# Altium footprint library BLDC-2020.PcbLib: 55 footprints (part 1 of 4)
Each footprint in its own frame and in the unit in brackets; x right, y up, seen from the top. Pads: shape width x height; smd on the part's side, far side on the other; paste and mask are expansions set on the pad; w line width, h text height; cw(c..) or ccw(c..) is an arc to the next point about the centre after c.
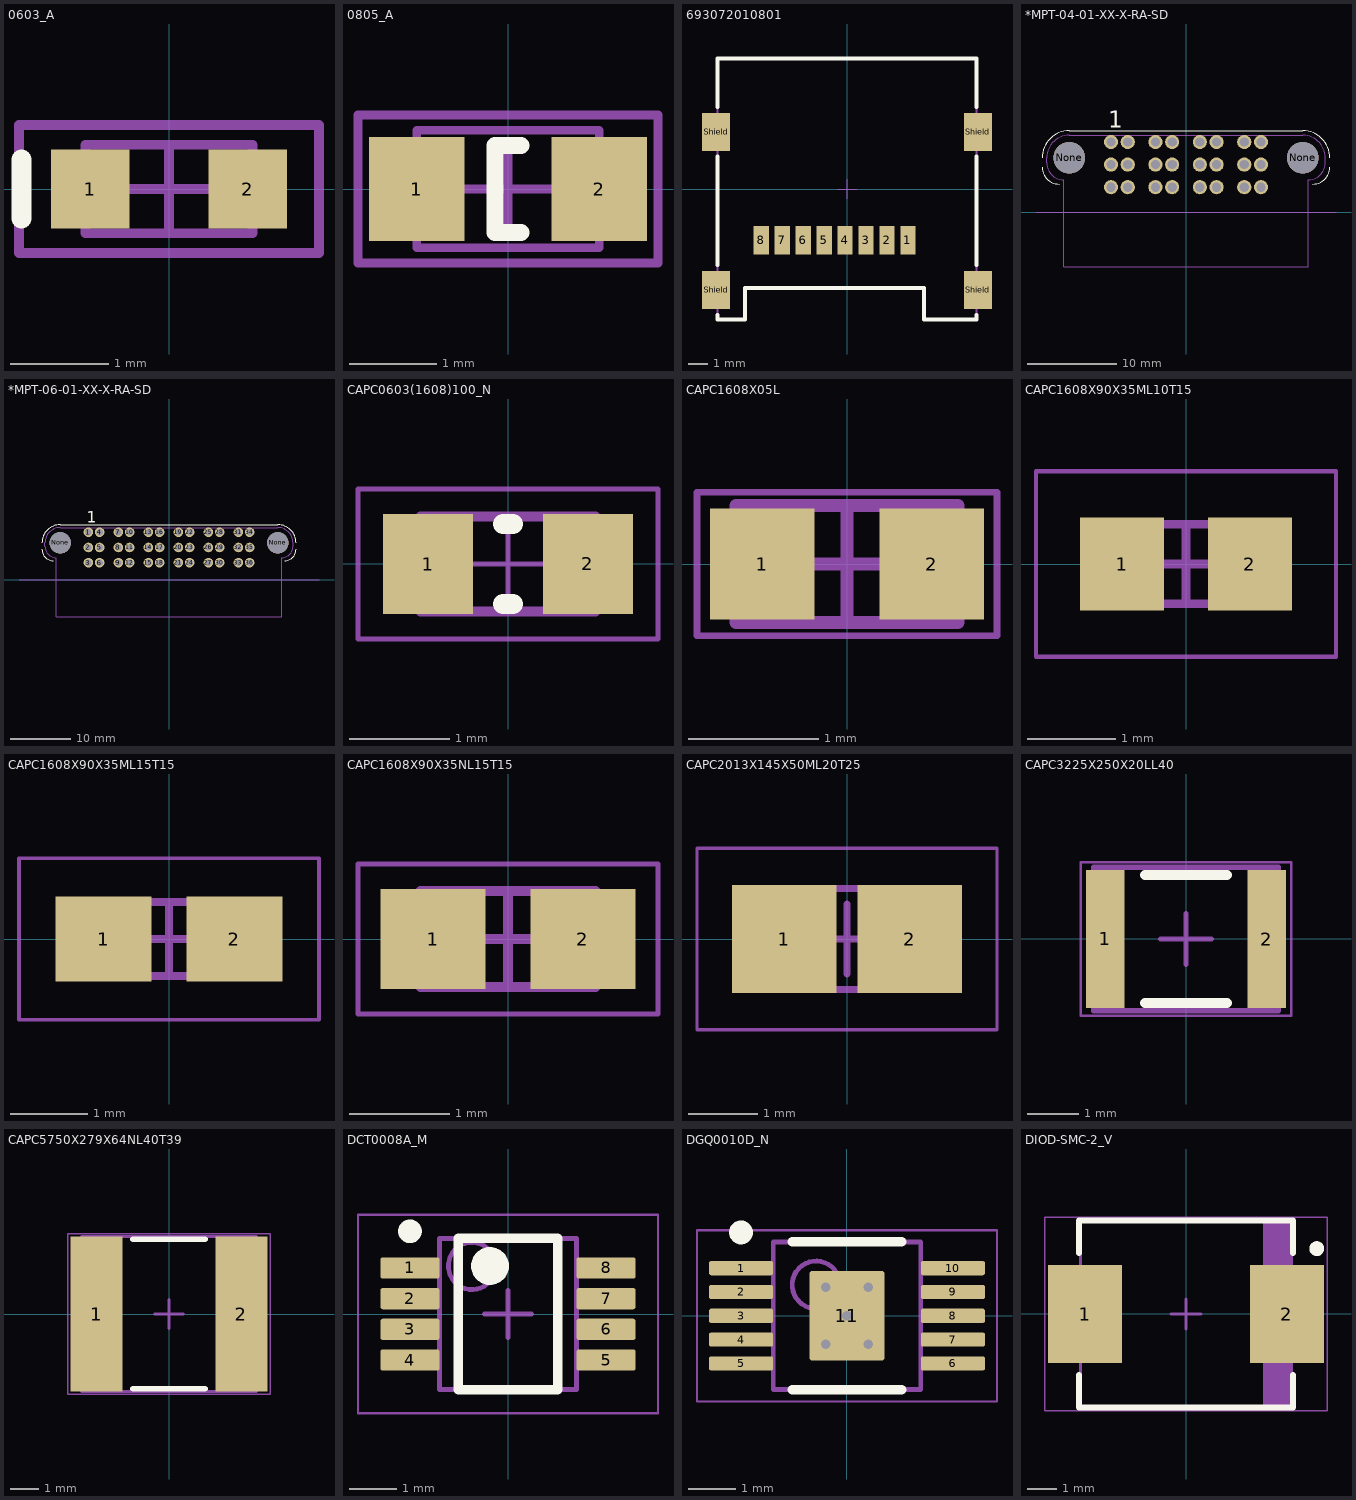
[diagram p0: the footprints below, top view; thin cyan lines are the x and y axes]

## 0603_A [mm]
pads (2):
  rect 0.8x0.8 smd: 1(-0.8,0) 2(0.8,0)
Top Overlay:
  lines w0.2: -1.5,-0.3 -1.5,0.3
Mechanical 13:
  lines w0.1: -0.85,-0.45 0.85,-0.45 0.85,0.45 -0.85,0.45 -0.85,-0.45
Mechanical 15:
  lines w0.1: -0.45,0 0.45,0 ; 0,-0.45 0,0.45 ; -1.525,-0.65 1.525,-0.65 1.525,0.65 -1.525,0.65 -1.525,-0.65
3D body "WL-SMCW_0603_LED.stp": height 0.7, standoff 0, extent -0.8,-0.4 0.8,0.4

## 0805_A [mm]
pads (2):
  rect 1.1x1.2 smd: 1(-1.05,0) 2(1.05,0)
Top Overlay:
  lines w0.2: 0.15,-0.5 -0.15,-0.5 -0.15,0.5 0.15,0.5
Mechanical 13:
  lines w0.1: -1.05,-0.675 -1.05,0.675 1.05,0.675 1.05,-0.675 -1.05,-0.675
Mechanical 15:
  lines w0.1: -0.5,0 0.5,0 ; 0,-0.5 0,0.5 ; -1.725,-0.85 -1.725,0.85 1.725,0.85 1.725,-0.85 -1.725,-0.85
3D body "WL-SMCW_0805_LED.stp": height 0.68, standoff -0.02, extent -1,-0.625 1,0.625

## 693072010801 [mm]
pads (12):
  rect 0.8x1.5 smd: 1(3.2,-2.7) 2(2.1,-2.7) 3(1,-2.7) 4(-0.1,-2.7) 5(-1.2,-2.7) 6(-2.3,-2.7) 7(-3.4,-2.7) 8(-4.5,-2.7)
  rect 1.45x2 smd: Shield(-6.875,-5.3) Shield(-6.875,3) Shield(6.875,-5.3) Shield(6.875,3)
Top Overlay:
  lines w0.2: -6.8,-6.6 -6.8,-6.85 -5.35,-6.85 -5.35,-5.2 4.05,-5.2 4.05,-6.85 6.8,-6.85 6.8,-6.6 ; -6.8,-4 -6.8,1.7 ; -6.8,4.3 -6.8,6.85 6.8,6.85 6.8,4.3 ; 6.8,-4 6.8,1.7
Mechanical 13:
  lines w0.1: -6.8,-6.85 -5.35,-6.85 -5.35,-5.2 4.05,-5.2 4.05,-6.85 6.8,-6.85 6.8,6.85 -6.8,6.85 -6.8,-6.85
Mechanical 15:
  lines w0.05: -0.5,0 0.5,0 ; 0,-0.5 0,0.5
3D body "693072010801.stp": height 1.79, standoff 0.02, extent -7.25,-6.85 7.25,6.85

## *MPT-04-01-XX-X-RA-SD [mm]
pads (26):
  round 3.56 hole 3.56 unplated: None(-13.14,6.15) None(13.14,6.15)
  round 1.6 hole 1.04: P1-1(-8.44,7.93) P1-2(-8.44,5.39) P1-3(-8.44,2.85) P1-4(-6.56,7.93) P1-5(-6.56,5.39) P1-6(-6.56,2.85) P2-1(-3.44,7.93) P2-2(-3.44,5.39) P2-3(-3.44,2.85) P2-4(-1.56,7.93) P2-5(-1.56,5.39) P2-6(-1.56,2.85) P3-1(1.56,7.93) P3-2(1.56,5.39) P3-3(1.56,2.85) P3-4(3.44,7.93) P3-5(3.44,5.39) P3-6(3.44,2.85) P4-1(6.56,7.93) P4-2(6.56,5.39) P4-3(6.56,2.85) P4-4(8.44,7.93) P4-5(8.44,5.39) P4-6(8.44,2.85)
Top Overlay:
  lines w0.127: -16.18,5.095 ccw(c-14.275,5.095) -14.275,3.19 ; -16.18,6.15 cw(c-13.14,6.15) -13.14,9.19 13.14,9.19 cw(c13.14,6.15) 16.18,6.15 ; 14.275,3.19 ccw(c14.275,5.095) 16.18,5.095
  text "1" at -8.735,9.527 h1.88
Mechanical 13:
  lines w0.127: -15.68,6.15 cw(c-13.14,6.15) -13.14,8.69 ; -15.68,6.15 cw(c-13.14,6.15) -13.14,8.69 ; -15.68,6.15 -15.68,5.595 -15.68,6.15 ; -13.775,-6.12 13.775,-6.12 ; -13.775,-6.12 -13.775,3.69 -13.775,-6.12 ; -13.775,-6.12 13.775,-6.12 ; -13.14,8.69 13.14,8.69 ; -13.14,8.69 13.14,8.69 ; 13.14,8.69 cw(c13.14,6.15) 15.68,6.15 ; 13.14,8.69 cw(c13.14,6.15) 15.68,6.15 ; 13.775,-6.12 13.775,3.69 13.775,-6.12 ; 15.68,6.15 15.68,5.595 15.68,6.15 ; -16.88,0 16.88,0 -16.88,0 ; -15.68,5.595 ccw(c-13.775,5.595) -13.775,3.69 cw(c-13.775,5.595) -15.68,5.595 ; 13.775,3.69 ccw(c13.775,5.595) 15.68,5.595 cw(c13.775,5.595) 13.775,3.69
3D body "MPT-04-01-01-L-RA-SD.stp": height 10.75, standoff -2.77, extent -15.621,-6.008 15.739,8.802

## *MPT-06-01-XX-X-RA-SD [mm]
pads (38):
  round 1.6 hole 1.04: 1(-13.44,7.93) 2(-13.44,5.39) 3(-13.44,2.85) 4(-11.56,7.93) 5(-11.56,5.39) 6(-11.56,2.85) 7(-8.44,7.93) 8(-8.44,5.39) 9(-8.44,2.85) 10(-6.56,7.93) 11(-6.56,5.39) 12(-6.56,2.85) 13(-3.44,7.93) 14(-3.44,5.39) 15(-3.44,2.85) 16(-1.56,7.93) 17(-1.56,5.39) 18(-1.56,2.85) 19(1.56,7.93) 20(1.56,5.39) 21(1.56,2.85) 22(3.44,7.93) 23(3.44,5.39) 24(3.44,2.85) 25(6.56,7.93) 26(6.56,5.39) 27(6.56,2.85) 28(8.44,7.93) 29(8.44,5.39) 30(8.44,2.85) 31(11.56,7.93) 32(11.56,5.39) 33(11.56,2.85) 34(13.44,7.93) 35(13.44,5.39) 36(13.44,2.85)
  round 3.56 hole 3.56 unplated: None(-18.14,6.15) None(18.14,6.15)
Top Overlay:
  lines w0.127: -21.18,5.095 ccw(c-19.275,5.095) -19.275,3.19 ; -21.18,6.15 cw(c-18.14,6.15) -18.14,9.19 18.14,9.19 cw(c18.14,6.15) 21.18,6.15 ; 19.275,3.19 ccw(c19.275,5.095) 21.18,5.095
  text "1" at -13.724,9.513 h1.88
Mechanical 13:
  lines w0.127: -20.68,5.595 ccw(c-18.775,5.595) -18.775,3.69 ; -20.68,5.595 ccw(c-18.775,5.595) -18.775,3.69 ; -20.68,5.595 -20.68,6.15 ; -20.68,5.595 -20.68,6.15 ; -20.68,6.15 cw(c-18.14,6.15) -18.14,8.69 ; -20.68,6.15 cw(c-18.14,6.15) -18.14,8.69 ; -18.775,-6.12 18.775,-6.12 ; -18.775,-6.12 -18.775,3.69 ; -18.775,-6.12 18.775,-6.12 ; -18.775,-6.12 -18.775,3.69 ; -18.14,8.69 18.14,8.69 ; -18.14,8.69 18.14,8.69 ; 18.14,8.69 cw(c18.14,6.15) 20.68,6.15 ; 18.14,8.69 cw(c18.14,6.15) 20.68,6.15 ; 18.775,-6.12 18.775,3.69 ; 18.775,-6.12 18.775,3.69 ; 18.775,3.69 ccw(c18.775,5.595) 20.68,5.595 ; 18.775,3.69 ccw(c18.775,5.595) 20.68,5.595 ; 20.68,5.595 20.68,6.15 ; 20.68,5.595 20.68,6.15 ; -25,0 25,0 -25,0
3D body "MPT-06-01-03-L-RA-SD.stp": height 10.85, standoff -3.46, extent -20.701,-6.047 20.659,8.763

## CAPC0603(1608)100_N [mm]
pads (2):
  rect 0.9x1 smd: 1(-0.8,0) 2(0.8,0)
Top Overlay:
  lines w0.2: -0.05,-0.4 0.05,-0.4 ; -0.05,0.4 0.05,0.4
Mechanical 13:
  lines w0.1: -0.875,-0.475 0.875,-0.475 0.875,0.475 -0.875,0.475 -0.875,-0.475
Mechanical 15:
  lines w0.05: -0.475,0 0.475,0 ; 0,-0.475 0,0.475 ; -1.5,-0.75 1.5,-0.75 1.5,0.75 -1.5,0.75 -1.5,-0.75
3D body: height 1, standoff 0, extent 0.525,-0.475 0.875,0.475
3D body: height 1, standoff 0, extent -0.875,-0.475 -0.525,0.475
3D body: height 1, standoff 0, extent -0.525,-0.475 0.525,0.475

## CAPC1608X05L [mm]
pads (2):
  rect 0.8x0.85 smd: 1(-0.65,0) 2(0.65,0)
Mechanical 13:
  lines w0.1: -0.85,-0.45 -0.85,0.45 0.85,0.45 0.85,-0.45 -0.85,-0.45
Mechanical 15:
  lines w0.05: -1.15,-0.55 -1.15,0.55 1.15,0.55 1.15,-0.55 -1.15,-0.55
  lines w0.1: -0.45,0 0.45,0 ; 0,-0.45 0,0.45
3D body "CAPC1608X05L.step": height 0.5, standoff 0, extent -0.85,-0.45 0.85,0.45

## CAPC1608X90X35ML10T15 [mm]
pads (2):
  rect 0.95x1.05 smd: 1(-0.725,0) 2(0.725,0)
Mechanical 13:
  lines w0.1: -0.85,-0.45 -0.85,0.45 0.85,0.45 0.85,-0.45 -0.85,-0.45
Mechanical 15:
  lines w0.05: -1.7,-1.05 -1.7,1.05 1.7,1.05 1.7,-1.05 -1.7,-1.05
  lines w0.1: -0.45,0 0.45,0 ; 0,-0.45 0,0.45
3D body: height 0.9, standoff 0, extent -0.5,-0.45 0.5,0.45
3D body: height 0.9, standoff 0, extent -0.85,-0.45 -0.5,0.45
3D body: height 0.9, standoff 0, extent 0.5,-0.45 0.85,0.45

## CAPC1608X90X35ML15T15 [mm]
pads (2):
  rect 1.25x1.1 smd: 1(-0.85,0) 2(0.85,0)
Mechanical 13:
  lines w0.1: -0.875,-0.48 -0.875,0.48 0.875,0.48 0.875,-0.48 -0.875,-0.48
Mechanical 15:
  lines w0.05: -1.95,-1.05 -1.95,1.05 1.95,1.05 1.95,-1.05 -1.95,-1.05
  lines w0.1: -0.48,0 0.48,0 ; 0,-0.48 0,0.48
3D body: height 0.9, standoff 0, extent -0.525,-0.48 0.525,0.48
3D body: height 0.9, standoff 0, extent -0.875,-0.48 -0.525,0.48
3D body: height 0.9, standoff 0, extent 0.525,-0.48 0.875,0.48

## CAPC1608X90X35NL15T15 [mm]
pads (2):
  rect 1.05x1 smd: 1(-0.75,0) 2(0.75,0)
Mechanical 13:
  lines w0.1: -0.875,-0.48 -0.875,0.48 0.875,0.48 0.875,-0.48 -0.875,-0.48
Mechanical 15:
  lines w0.05: -1.5,-0.75 -1.5,0.75 1.5,0.75 1.5,-0.75 -1.5,-0.75
  lines w0.1: -0.48,0 0.48,0 ; 0,-0.48 0,0.48
3D body: height 0.9, standoff 0, extent -0.525,-0.48 0.525,0.48
3D body: height 0.9, standoff 0, extent -0.875,-0.48 -0.525,0.48
3D body: height 0.9, standoff 0, extent 0.525,-0.48 0.875,0.48

## CAPC2013X145X50ML20T25 [mm]
pads (2):
  rect 1.5x1.55 smd: 1(-0.9,0) 2(0.9,0)
Mechanical 13:
  lines w0.1: -1.1,-0.725 -1.1,0.725 1.1,0.725 1.1,-0.725 -1.1,-0.725
Mechanical 15:
  lines w0.05: -2.15,-1.3 -2.15,1.3 2.15,1.3 2.15,-1.3 -2.15,-1.3
  lines w0.1: -0.5,0 0.5,0 ; 0,-0.5 0,0.5
3D body: height 1.45, standoff 0, extent -0.6,-0.725 0.6,0.725
3D body: height 1.45, standoff 0, extent -1.1,-0.725 -0.6,0.725
3D body: height 1.45, standoff 0, extent 0.6,-0.725 1.1,0.725

## CAPC3225X250X20LL40 [mm]
pads (2):
  rect 0.75x2.7 smd: 1(-1.575,0) 2(1.575,0)
Top Overlay:
  lines w0.2: -0.8,-1.25 0.8,-1.25 ; -0.8,1.25 0.8,1.25
Mechanical 13:
  lines w0.1: -1.8,-1.4 1.8,-1.4 1.8,1.4 -1.8,1.4 -1.8,-1.4
Mechanical 15:
  lines w0.05: -2.05,-1.5 2.05,-1.5 2.05,1.5 -2.05,1.5 -2.05,-1.5
  lines w0.1: -0.5,0 0.5,0 ; 0,-0.5 0,0.5
3D body "CAPC3225X25L.step": height 2.5, standoff 0, extent -1.8,-1.4 1.8,1.4

## CAPC5750X279X64NL40T39 [mm]
pads (2):
  rect 1.8x5.4 smd: 1(-2.525,0) 2(2.525,0)
Top Overlay:
  lines w0.2: -1.25,-2.6 1.25,-2.6 ; -1.25,2.6 1.25,2.6
Mechanical 13:
  lines w0.1: -3.05,-2.7 -3.05,2.7 3.05,2.7 3.05,-2.7 -3.05,-2.7
Mechanical 15:
  lines w0.05: -3.525,-2.8 -3.525,2.8 3.525,2.8 3.525,-2.8 -3.525,-2.8
  lines w0.1: -0.5,0 0.5,0 ; 0,-0.5 0,0.5
3D body: height 2.79, standoff 0, extent -2.41,-2.7 2.41,2.7
3D body: height 2.79, standoff 0, extent -3.05,-2.7 -2.41,2.7
3D body: height 2.79, standoff 0, extent 2.41,-2.7 3.05,2.7

## DCT0008A_M [mm]
pads (8):
  rrect22% 1.25x0.45 smd: 1(-2.075,0.975) 2(-2.075,0.325) 3(-2.075,-0.325) 4(-2.075,-0.975) 5(2.075,-0.975) 6(2.075,-0.325) 7(2.075,0.325) 8(2.075,0.975)
Top Overlay:
  circle w0.4: c-0.381,1.016 r0.2
  circle w0.25: c-2.075,1.75 r0.125
  lines w0.2: -1.05,-1.6 1.05,-1.6 1.05,1.6 -1.05,1.6 -1.05,-1.6
Mechanical 1:
  text ".Designator" at -1.143,-0.254 h0.6
Mechanical 13:
  circle w0.1: c-0.762,1.016 r0.5
  lines w0.1: -1.45,-1.6 1.45,-1.6 1.45,1.6 -1.45,1.6 -1.45,-1.6
Mechanical 15:
  lines w0.05: -3.175,-2.1 3.175,-2.1 3.175,2.1 -3.175,2.1 -3.175,-2.1
  lines w0.1: -0.5,0 0.5,0 ; 0,-0.5 0,0.5
3D body "DCT0008A.stp": height 1.3, standoff 0, extent -2.011,-1.475 2.011,1.475

## DGQ0010D_N [mm]
pads (11):
  rrect33% 1.35x0.3 smd: 1(-2.225,1) 2(-2.225,0.5) 3(-2.225,0) 4(-2.225,-0.5) 5(-2.225,-1) 6(2.225,-1) 7(2.225,-0.5) 8(2.225,0) 9(2.225,0.5) 10(2.225,1)
  rrect6% 1.57x1.88 smd: 11(0,0)
via -0.45,0.6 diameter 0.5 hole 0.2
via -0.45,-0.6 diameter 0.5 hole 0.2
via 0.45,-0.6 diameter 0.5 hole 0.2
via 0.45,0.6 diameter 0.5 hole 0.2
via 0,0 diameter 0.5 hole 0.2
Top Overlay:
  circle w0.25: c-2.225,1.75 r0.125
  lines w0.2: -1.15,-1.55 1.15,-1.55 ; -1.15,1.55 1.15,1.55
Mechanical 1:
  text ".Designator" at -1.397,-0.254 h0.7
Mechanical 13:
  circle w0.1: c-0.65,0.65 r0.5
  lines w0.1: -1.55,-1.55 -1.55,1.55 1.55,1.55 1.55,-1.55 -1.55,-1.55
Mechanical 15:
  lines w0.05: -3.15,-1.8 -3.15,1.8 3.15,1.8 3.15,-1.8 -3.15,-1.8
  lines w0.1: -0.5,0 0.5,0 ; 0,-0.5 0,0.5
3D body "DGQ0010.stp": height 0.94, standoff -0.02, extent -2.451,-1.499 2.451,1.499

## DIOD-SMC-2_V [mm]
pads (2):
  rect 2.5x3.3 smd: 1(-3.4,0) 2(3.4,0)
Top Overlay:
  circle w0.25: c4.4,2.2 r0.125
  lines w0.2: -3.6,-2.05 -3.6,-3.15 3.6,-3.15 3.6,-2.05 ; -3.6,2.05 -3.6,3.15 3.6,3.15 3.6,2.05
Mechanical 13:
  rectangle: 2.599,-3.11 3.555,3.11
  lines w0.1: -3.555,-3.11 -3.555,3.11 3.555,3.11 3.555,-3.11 -3.555,-3.11
Mechanical 15:
  lines w0.05: -4.75,-3.25 -4.75,3.25 4.75,3.25 4.75,-3.25 -4.75,-3.25
  lines w0.1: -0.5,0 0.5,0 ; 0,-0.5 0,0.5
3D body "DIOM6959X25L.step": height 2.5, standoff 0, extent -3.775,-3.11 3.775,3.11